# Altium integrated library C0402H220J5GACT500.IntLib: 1 symbol
Pins are listed as number, name and electrical type; pins without a type are passive.

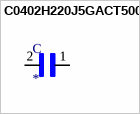
[diagram p0: symbol C0402H220J5GACT500]

## C0402H220J5GACT500
designator C
Capacitor, Np0, 0402, 50v, 22pf; MP: C0402H220J5GACT500; MF: KEMET; Price: None; SnapEDA_Link: https://www.snapeda.com/parts/C0402H220J5GACT500/KEMET/view-part/2039543/?ref=snap; Package: 0402 KEMET; Value: *; Availability: Unavailable
footprint CAPC1005X55N
pins: 1, 2